# Altium integrated library ADC - Programmable.IntLib: 18 symbols
Pins are listed as number, name and electrical type; pins without a type are passive.

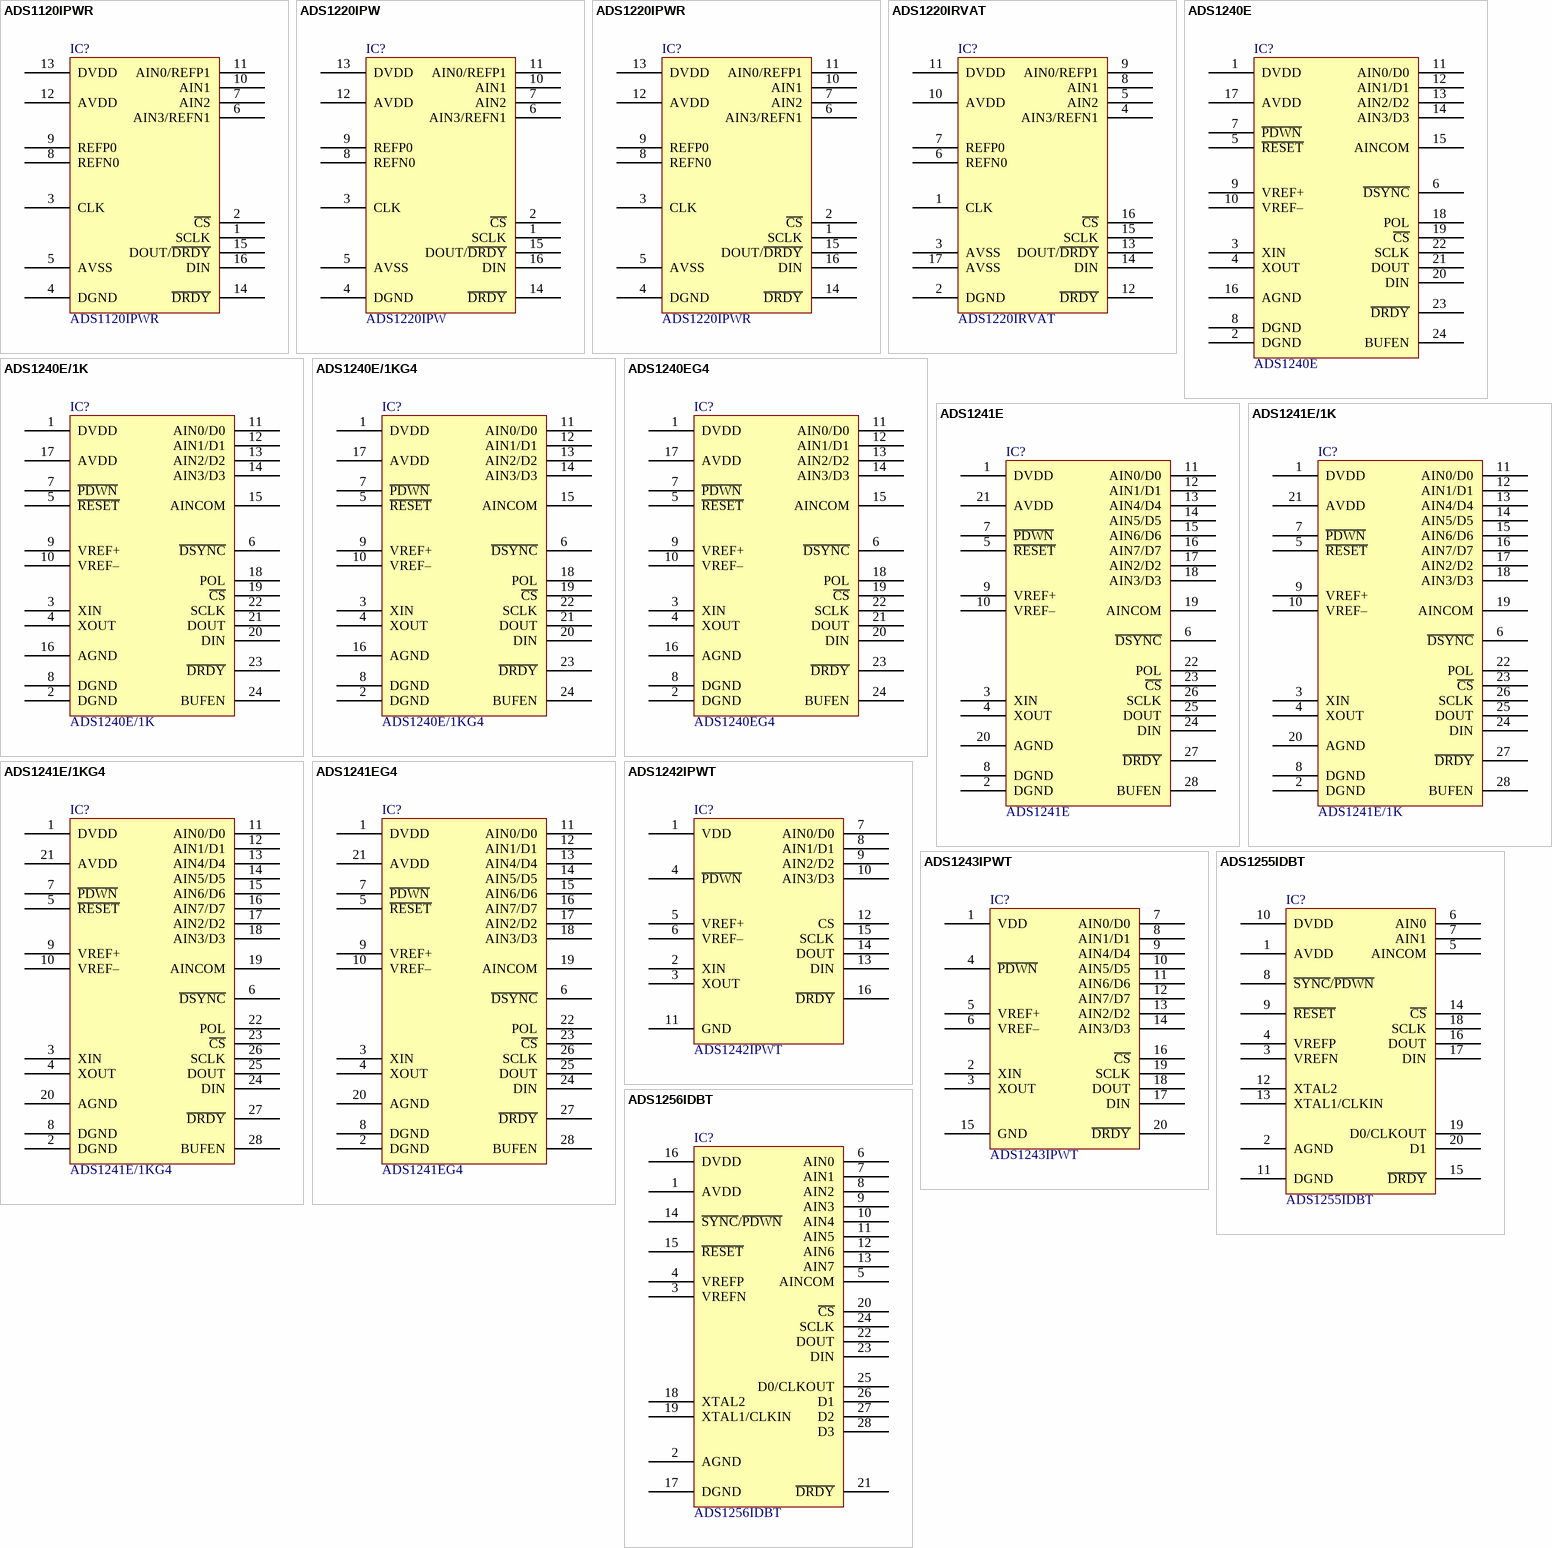
[diagram p0: symbols ADS1120IPWR to ADS1256IDBT]

## ADS1120IPWR
designator IC?
IC ADC CONV 16BIT LP LN 16TSSOP; Manufacturer: Texas Instruments; Number of Bits: 16; Samping Rate: 2k; Number of Inputs: 2, 4; Input Type: Differential, Single Ended; Data Interface: SPI; Configuration: MUX-PGA-ADC; Number of A/D Converters: 1; Architecture: Sigma-Delta; Reference Type: External, Internal, Supply; Voltage - Supply, Analog: 2.3 V ~ 5.5 V; Part Number: ADS1120IPWR; PartId: 15703; Supplier 1: Digi-Key; Supplier Part Number 1: 296-37280-1-ND; ComponentLink1Description: Datasheet; ComponentLink1URL: http://www.ti.com/lit/ds/symlink/ads1120.pdf; ComponentLink2Description: Digi-Key Listing; ComponentLink2URL: http://www.digikey.com/product-detail/en/texas-instruments/ADS1120IPWR/296-37280-1-ND/4733029; Price: 6.95; Type: ADC; Device Package: 16-TSSOP (0.173", 4.40mm Width); Series: -; Ratio - S/H:ADC: -; Voltage - Supply, Digital: 2.3 V ~ 5.5 V; Features: PGA, Temperature Sensor
footprint TI TSSOP-16 PW
pins: 1 SCLK, 2 ~{CS}, 3 CLK, 4 DGND, 5 AVSS, 6 AIN3/REFN1, 7 AIN2, 8 REFN0, 9 REFP0, 10 AIN1, 11 AIN0/REFP1, 12 AVDD, 13 DVDD, 14 ~{DRDY}, 15 DOUT/~{DRDY}, 16 DIN

## ADS1220IPW
designator IC?
IC ADC 24-BIT 2KSPS 16-TSSOP; Manufacturer: Texas Instruments; Number of Bits: 24; Samping Rate: 2k; Number of Inputs: 2, 4; Input Type: Differential, Single Ended; Data Interface: SPI; Configuration: MUX-PGA-ADC; Number of A/D Converters: 1; Architecture: Sigma-Delta; Reference Type: External, Internal, Supply; Voltage - Supply, Analog: 2.3 V ~ 5.5 V; Part Number: ADS1220IPW; PartId: 9270; Supplier 1: Digi-Key; Supplier Part Number 1: 296-36512-5-ND; ComponentLink1Description: Datasheet; ComponentLink1URL: http://www.ti.com/lit/ds/symlink/ads1220.pdf; ComponentLink2Description: Digi-Key Listing; ComponentLink2URL: http://www.digikey.com/product-detail/en/ADS1220IPW/296-36512-5-ND/4311719; Price: 10.15; Device Package: 16-TSSOP (0.173", 4.40mm Width); Series: -; Ratio - S/H:ADC: -; Voltage - Supply, Digital: 2.3 V ~ 5.5 V; Features: PGA, Temperature Sensor
footprint TI TSSOP-16 PW
pins: 1 SCLK, 2 ~{CS}, 3 CLK, 4 DGND, 5 AVSS, 6 AIN3/REFN1, 7 AIN2, 8 REFN0, 9 REFP0, 10 AIN1, 11 AIN0/REFP1, 12 AVDD, 13 DVDD, 14 ~{DRDY}, 15 DOUT/~{DRDY}, 16 DIN

## ADS1220IPWR
designator IC?
IC ADC 24-BIT 2KSPS 16-TSSOP; Manufacturer: Texas Instruments; Number of Bits: 24; Samping Rate: 2k; Number of Inputs: 2, 4; Input Type: Differential, Single Ended; Data Interface: SPI; Configuration: MUX-PGA-ADC; Number of A/D Converters: 1; Architecture: Sigma-Delta; Reference Type: External, Internal; Voltage - Supply, Analog: 2.3 V ~ 5.5 V; Part Number: ADS1220IPWR; PartId: 15702; Supplier 1: Digi-Key; Supplier Part Number 1: 296-39851-1-ND; ComponentLink1Description: Datasheet; ComponentLink1URL: http://www.ti.com/lit/ds/symlink/ads1220.pdf; ComponentLink2Description: Digi-Key Listing; ComponentLink2URL: http://www.digikey.com/product-detail/en/texas-instruments/ADS1220IPWR/296-39851-1-ND/5177728; Price: 8.71; Type: ADC; Device Package: 16-TSSOP (0.173", 4.40mm Width); Series: -; Ratio - S/H:ADC: -; Voltage - Supply, Digital: 2.3 V ~ 5.5 V; Features: PGA, Temperature Sensor
footprint TI TSSOP-16 PW
pins: 1 SCLK, 2 ~{CS}, 3 CLK, 4 DGND, 5 AVSS, 6 AIN3/REFN1, 7 AIN2, 8 REFN0, 9 REFP0, 10 AIN1, 11 AIN0/REFP1, 12 AVDD, 13 DVDD, 14 ~{DRDY}, 15 DOUT/~{DRDY}, 16 DIN

## ADS1220IRVAT
designator IC?
IC ADC 24-BIT 2KSPS 16-VQFN; Manufacturer: Texas Instruments; Number of Bits: 24; Samping Rate: 2k; Number of Inputs: 2, 4; Input Type: Differential, Single Ended; Data Interface: SPI; Configuration: MUX-PGA-ADC; Number of A/D Converters: 1; Architecture: Sigma-Delta; Reference Type: External, Internal, Supply; Voltage - Supply, Analog: 2.3 V ~ 5.5 V; Part Number: ADS1220IRVAT; PartId: 9271; Supplier 1: Digi-Key; Supplier Part Number 1: 296-37802-2-ND; ComponentLink1Description: Datasheet; ComponentLink1URL: http://www.ti.com/lit/ds/symlink/ads1220.pdf; ComponentLink2Description: Digi-Key Listing; ComponentLink2URL: http://www.digikey.com/product-detail/en/ADS1220IRVAT/296-37802-2-ND/4806293; Price: 6.9462; Device Package: 16-VFQFN Exposed Pad; Series: -; Ratio - S/H:ADC: -; Voltage - Supply, Digital: 2.3 V ~ 5.5 V; Features: PGA, Temperature Sensor
footprint TI VQFN-16 RVA
pins: 1 CLK, 2 DGND, 3 AVSS, 4 AIN3/REFN1, 5 AIN2, 6 REFN0, 7 REFP0, 8 AIN1, 9 AIN0/REFP1, 10 AVDD, 11 DVDD, 12 ~{DRDY}, 13 DOUT/~{DRDY}, 14 DIN, 15 SCLK, 16 ~{CS}, 17 AVSS

## ADS1240E
designator IC?
IC ADC 24-BIT SER PROGBL 24-SSOP; Manufacturer: Texas Instruments; Number of Bits: 24; Samping Rate: 15; Number of Inputs: 4; Input Type: Differential, Single Ended; Data Interface: SPI; Configuration: MUX-PGA-ADC; Number of A/D Converters: 1; Reference Type: External; Voltage - Supply, Analog: 2.7 V ~ 3.3 V, 5V; Voltage - Supply, Digital: 2.7 V ~ 5.25 V; Part Number: ADS1240E; PartId: 9263; Supplier 1: Digi-Key; Supplier Part Number 1: ADS1240E-ND; ComponentLink1Description: Datasheet; ComponentLink1URL: http://www.ti.com/lit/ds/symlink/ads1240.pdf; ComponentLink2Description: Digi-Key Listing; ComponentLink2URL: https://www.digikey.com/product-detail/en/ADS1240E/ADS1240E-ND/379937; Price: 15.95; Device Package: 24-SSOP (0.209", 5.30mm Width); Series: -; Features: PGA
footprint TI SSOP-24 DB
pins: 1 DVDD, 2 DGND, 3 XIN, 4 XOUT, 5 ~{RESET}, 6 ~{DSYNC}, 7 ~{PDWN}, 8 DGND, 9 VREF+, 10 VREF–, 11 AIN0/D0, 12 AIN1/D1, 13 AIN2/D2, 14 AIN3/D3, 15 AINCOM, 16 AGND, 17 AVDD, 18 POL, 19 ~{CS}, 20 DIN, 21 DOUT, 22 SCLK, 23 ~{DRDY}, 24 BUFEN

## ADS1240E/1K
designator IC?
IC ADC 24-BIT SER PROGBL 24-SSOP; Manufacturer: Texas Instruments; Number of Bits: 24; Samping Rate: 15; Number of Inputs: 4; Input Type: Differential, Single Ended; Data Interface: SPI; Configuration: MUX-PGA-ADC; Number of A/D Converters: 1; Reference Type: External; Voltage - Supply, Analog: 2.7 V ~ 3.3 V, 5V; Voltage - Supply, Digital: 2.7 V ~ 5.25 V; Part Number: ADS1240E/1K; PartId: 9258; Supplier 1: Digi-Key; Supplier Part Number 1: 296-38851-2-ND; ComponentLink1Description: Datasheet; ComponentLink1URL: http://www.ti.com/lit/ds/symlink/ads1240.pdf; ComponentLink2Description: Digi-Key Listing; ComponentLink2URL: https://www.digikey.com/product-detail/en/ADS1240E%2F1K/296-38851-2-ND/1689143; Price: 7.0387; Device Package: 24-SSOP (0.209", 5.30mm Width); Series: -; Features: PGA
footprint TI SSOP-24 DB
pins: 1 DVDD, 2 DGND, 3 XIN, 4 XOUT, 5 ~{RESET}, 6 ~{DSYNC}, 7 ~{PDWN}, 8 DGND, 9 VREF+, 10 VREF–, 11 AIN0/D0, 12 AIN1/D1, 13 AIN2/D2, 14 AIN3/D3, 15 AINCOM, 16 AGND, 17 AVDD, 18 POL, 19 ~{CS}, 20 DIN, 21 DOUT, 22 SCLK, 23 ~{DRDY}, 24 BUFEN

## ADS1240E/1KG4
designator IC?
IC ADC 24-BIT SER PROGBL 24-SSOP; Manufacturer: Texas Instruments; Number of Bits: 24; Samping Rate: 15; Number of Inputs: 4; Input Type: Differential, Single Ended; Data Interface: SPI; Configuration: MUX-PGA-ADC; Number of A/D Converters: 1; Reference Type: External; Voltage - Supply, Analog: 2.7 V ~ 3.3 V, 5V; Voltage - Supply, Digital: 2.7 V ~ 5.25 V; Part Number: ADS1240E/1KG4; PartId: 9259; Supplier 1: Digi-Key; Supplier Part Number 1: ADS1240E/1KG4-ND; ComponentLink1Description: Datasheet; ComponentLink1URL: http://www.ti.com/lit/ds/symlink/ads1240.pdf; ComponentLink2Description: Digi-Key Listing; ComponentLink2URL: https://www.digikey.com/product-detail/en/ADS1240E%2F1KG4/ADS1240E%2F1KG4-ND/1689144; Price: 7.0387; Device Package: 24-SSOP (0.209", 5.30mm Width); Series: -; Features: PGA
footprint TI SSOP-24 DB
pins: 1 DVDD, 2 DGND, 3 XIN, 4 XOUT, 5 ~{RESET}, 6 ~{DSYNC}, 7 ~{PDWN}, 8 DGND, 9 VREF+, 10 VREF–, 11 AIN0/D0, 12 AIN1/D1, 13 AIN2/D2, 14 AIN3/D3, 15 AINCOM, 16 AGND, 17 AVDD, 18 POL, 19 ~{CS}, 20 DIN, 21 DOUT, 22 SCLK, 23 ~{DRDY}, 24 BUFEN

## ADS1240EG4
designator IC?
IC ADC 24-BIT SER PROGBL 24-SSOP; Manufacturer: Texas Instruments; Number of Bits: 24; Samping Rate: 15; Number of Inputs: 4; Input Type: Differential, Single Ended; Data Interface: SPI; Configuration: MUX-PGA-ADC; Number of A/D Converters: 1; Reference Type: External; Voltage - Supply, Analog: 2.7 V ~ 3.3 V, 5V; Voltage - Supply, Digital: 2.7 V ~ 5.25 V; Part Number: ADS1240EG4; PartId: 9260; Supplier 1: Digi-Key; Supplier Part Number 1: ADS1240EG4-ND; ComponentLink1Description: Datasheet; ComponentLink1URL: http://www.ti.com/lit/ds/symlink/ads1240.pdf; ComponentLink2Description: Digi-Key Listing; ComponentLink2URL: https://www.digikey.com/product-detail/en/ADS1240EG4/ADS1240EG4-ND/1689145; Price: 13.7415; Device Package: 24-SSOP (0.209", 5.30mm Width); Series: -; Features: PGA
footprint TI SSOP-24 DB
pins: 1 DVDD, 2 DGND, 3 XIN, 4 XOUT, 5 ~{RESET}, 6 ~{DSYNC}, 7 ~{PDWN}, 8 DGND, 9 VREF+, 10 VREF–, 11 AIN0/D0, 12 AIN1/D1, 13 AIN2/D2, 14 AIN3/D3, 15 AINCOM, 16 AGND, 17 AVDD, 18 POL, 19 ~{CS}, 20 DIN, 21 DOUT, 22 SCLK, 23 ~{DRDY}, 24 BUFEN

## ADS1241E
designator IC?
IC ADC 24-BIT SER PROGBL 28-SSOP; Manufacturer: Texas Instruments; Number of Bits: 24; Samping Rate: 15; Number of Inputs: 8; Input Type: Differential, Single Ended; Data Interface: SPI; Configuration: MUX-PGA-ADC; Number of A/D Converters: 1; Reference Type: External; Voltage - Supply, Analog: 2.7 V ~ 3.3 V, 5V; Voltage - Supply, Digital: 2.7 V ~ 5.25 V; Part Number: ADS1241E; PartId: 9267; Supplier 1: Digi-Key; Supplier Part Number 1: ADS1241E-ND; ComponentLink1Description: Datasheet; ComponentLink1URL: http://www.ti.com/lit/ds/symlink/ads1240.pdf; ComponentLink2Description: Digi-Key Listing; ComponentLink2URL: https://www.digikey.com/product-detail/en/ADS1241E/ADS1241E-ND/379929; Price: 11.81; Device Package: 28-SSOP (0.209", 5.30mm Width); Series: -; Features: PGA
footprint TI SSOP-28 DB
pins: 1 DVDD, 2 DGND, 3 XIN, 4 XOUT, 5 ~{RESET}, 6 ~{DSYNC}, 7 ~{PDWN}, 8 DGND, 9 VREF+, 10 VREF–, 11 AIN0/D0, 12 AIN1/D1, 13 AIN4/D4, 14 AIN5/D5, 15 AIN6/D6, 16 AIN7/D7, 17 AIN2/D2, 18 AIN3/D3, 19 AINCOM, 20 AGND, 21 AVDD, 22 POL, 23 ~{CS}, 24 DIN, 25 DOUT, 26 SCLK, 27 ~{DRDY}, 28 BUFEN

## ADS1241E/1K
designator IC?
IC ADC 24-BIT SER PROGBL 28-SSOP; Manufacturer: Texas Instruments; Number of Bits: 24; Samping Rate: 15; Number of Inputs: 8; Input Type: Differential, Single Ended; Data Interface: SPI; Configuration: MUX-PGA-ADC; Number of A/D Converters: 1; Reference Type: External; Voltage - Supply, Analog: 2.7 V ~ 3.3 V, 5V; Voltage - Supply, Digital: 2.7 V ~ 5.25 V; Part Number: ADS1241E/1K; PartId: 9264; Supplier 1: Digi-Key; Supplier Part Number 1: 296-25895-2-ND; ComponentLink1Description: Datasheet; ComponentLink1URL: http://www.ti.com/lit/ds/symlink/ads1240.pdf; ComponentLink2Description: Digi-Key Listing; ComponentLink2URL: https://www.digikey.com/product-detail/en/ADS1241E%2F1K/296-25895-2-ND/1689146; Price: 5.21; Device Package: 28-SSOP (0.209", 5.30mm Width); Series: -; Features: PGA
footprint TI SSOP-28 DB
pins: 1 DVDD, 2 DGND, 3 XIN, 4 XOUT, 5 ~{RESET}, 6 ~{DSYNC}, 7 ~{PDWN}, 8 DGND, 9 VREF+, 10 VREF–, 11 AIN0/D0, 12 AIN1/D1, 13 AIN4/D4, 14 AIN5/D5, 15 AIN6/D6, 16 AIN7/D7, 17 AIN2/D2, 18 AIN3/D3, 19 AINCOM, 20 AGND, 21 AVDD, 22 POL, 23 ~{CS}, 24 DIN, 25 DOUT, 26 SCLK, 27 ~{DRDY}, 28 BUFEN

## ADS1241E/1KG4
designator IC?
IC ADC 24-BIT SER PROGBL 28-SSOP; Manufacturer: Texas Instruments; Number of Bits: 24; Samping Rate: 15; Number of Inputs: 8; Input Type: Differential, Single Ended; Data Interface: SPI; Configuration: MUX-PGA-ADC; Number of A/D Converters: 1; Reference Type: External; Voltage - Supply, Analog: 2.7 V ~ 3.3 V, 5V; Voltage - Supply, Digital: 2.7 V ~ 5.25 V; Part Number: ADS1241E/1KG4; PartId: 9265; Supplier 1: Digi-Key; Supplier Part Number 1: ADS1241E/1KG4-ND; ComponentLink1Description: Datasheet; ComponentLink1URL: http://www.ti.com/lit/ds/symlink/ads1240.pdf; ComponentLink2Description: Digi-Key Listing; ComponentLink2URL: https://www.digikey.com/product-detail/en/ADS1241E%2F1KG4/ADS1241E%2F1KG4-ND/1689147; Price: 5.21; Device Package: 28-SSOP (0.209", 5.30mm Width); Series: -; Features: PGA
footprint TI SSOP-28 DB
pins: 1 DVDD, 2 DGND, 3 XIN, 4 XOUT, 5 ~{RESET}, 6 ~{DSYNC}, 7 ~{PDWN}, 8 DGND, 9 VREF+, 10 VREF–, 11 AIN0/D0, 12 AIN1/D1, 13 AIN4/D4, 14 AIN5/D5, 15 AIN6/D6, 16 AIN7/D7, 17 AIN2/D2, 18 AIN3/D3, 19 AINCOM, 20 AGND, 21 AVDD, 22 POL, 23 ~{CS}, 24 DIN, 25 DOUT, 26 SCLK, 27 ~{DRDY}, 28 BUFEN

## ADS1241EG4
designator IC?
IC ADC 24-BIT SER PROGBL 28-SSOP; Manufacturer: Texas Instruments; Number of Bits: 24; Samping Rate: 15; Number of Inputs: 8; Input Type: Differential, Single Ended; Data Interface: SPI; Configuration: MUX-PGA-ADC; Number of A/D Converters: 1; Reference Type: External; Voltage - Supply, Analog: 2.7 V ~ 3.3 V, 5V; Voltage - Supply, Digital: 2.7 V ~ 5.25 V; Part Number: ADS1241EG4; PartId: 9266; Supplier 1: Digi-Key; Supplier Part Number 1: ADS1241EG4-ND; ComponentLink1Description: Datasheet; ComponentLink1URL: http://www.ti.com/lit/ds/symlink/ads1240.pdf; ComponentLink2Description: Digi-Key Listing; ComponentLink2URL: https://www.digikey.com/product-detail/en/ADS1241EG4/ADS1241EG4-ND/1689148; Price: 8.8324; Device Package: 28-SSOP (0.209", 5.30mm Width); Series: -; Features: PGA
footprint TI SSOP-28 DB
pins: 1 DVDD, 2 DGND, 3 XIN, 4 XOUT, 5 ~{RESET}, 6 ~{DSYNC}, 7 ~{PDWN}, 8 DGND, 9 VREF+, 10 VREF–, 11 AIN0/D0, 12 AIN1/D1, 13 AIN4/D4, 14 AIN5/D5, 15 AIN6/D6, 16 AIN7/D7, 17 AIN2/D2, 18 AIN3/D3, 19 AINCOM, 20 AGND, 21 AVDD, 22 POL, 23 ~{CS}, 24 DIN, 25 DOUT, 26 SCLK, 27 ~{DRDY}, 28 BUFEN

## ADS1242IPWT
designator IC?
IC ADC 24-BIT SER PROGBL 16TSSOP; Manufacturer: Texas Instruments; Number of Bits: 24; Samping Rate: 15; Number of Inputs: 4; Input Type: Differential, Single Ended; Data Interface: SPI; Configuration: MUX-PGA-ADC; Number of A/D Converters: 1; Architecture: Sigma-Delta; Reference Type: External; Voltage - Supply, Analog: 2.7 V ~ 3.3 V, 5V; Voltage - Supply, Digital: 2.7 V ~ 5.25 V; Part Number: ADS1242IPWT; PartId: 9268; Supplier 1: Digi-Key; Supplier Part Number 1: ADS1242IPWTTR-ND; ComponentLink1Description: Datasheet; ComponentLink1URL: http://www.ti.com/lit/ds/symlink/ads1242.pdf; ComponentLink2Description: Digi-Key Listing; ComponentLink2URL: http://www.digikey.com/product-detail/en/ADS1242IPWT/ADS1242IPWTTR-ND/459348; Price: 6.9394; Device Package: 16-TSSOP (0.173", 4.40mm Width); Series: -; Ratio - S/H:ADC: -; Features: PGA
footprint TI TSSOP-16 PW
pins: 1 VDD, 2 XIN, 3 XOUT, 4 ~{PDWN}, 5 VREF+, 6 VREF–, 7 AIN0/D0, 8 AIN1/D1, 9 AIN2/D2, 10 AIN3/D3, 11 GND, 12 CS, 13 DIN, 14 DOUT, 15 SCLK, 16 ~{DRDY}

## ADS1243IPWT
designator IC?
IC ADC 24-BIT SER PROGBL 20TSSOP; Manufacturer: Texas Instruments; Number of Bits: 24; Samping Rate: 15; Number of Inputs: 8; Input Type: Differential, Single Ended; Data Interface: SPI; Configuration: MUX-PGA-ADC; Number of A/D Converters: 1; Architecture: Sigma-Delta; Reference Type: External; Voltage - Supply, Analog: 2.7 V ~ 3.3 V, 5V; Voltage - Supply, Digital: 2.7 V ~ 5.25 V; Part Number: ADS1243IPWT; PartId: 9269; Supplier 1: Digi-Key; Supplier Part Number 1: ADS1243IPWTTR-ND; ComponentLink1Description: Datasheet; ComponentLink1URL: http://www.ti.com/lit/ds/symlink/ads1242.pdf; ComponentLink2Description: Digi-Key Listing; ComponentLink2URL: http://www.digikey.com/product-detail/en/ADS1243IPWT/ADS1243IPWTTR-ND/459360; Price: 7.616; Device Package: 20-TSSOP (0.173", 4.40mm Width); Series: -; Ratio - S/H:ADC: -; Features: PGA
footprint TI TSSOP-20 PW
pins: 1 VDD, 2 XIN, 3 XOUT, 4 ~{PDWN}, 5 VREF+, 6 VREF–, 7 AIN0/D0, 8 AIN1/D1, 9 AIN4/D4, 10 AIN5/D5, 11 AIN6/D6, 12 AIN7/D7, 13 AIN2/D2, 14 AIN3/D3, 15 GND, 16 ~{CS}, 17 DIN, 18 DOUT, 19 SCLK, 20 ~{DRDY}

## ADS1255IDBT
designator IC?
IC ADC 24-BIT SPI PROGBL 20-SSOP; Manufacturer: Texas Instruments; Number of Bits: 24; Samping Rate: 30k; Number of Inputs: 1, 2; Input Type: Differential, Single Ended; Configuration: MUX-PGA-ADC; Number of A/D Converters: 1; Architecture: Sigma-Delta; Reference Type: External; Voltage - Supply, Analog: 5V; Voltage - Supply, Digital: 1.8 V ~ 3.6 V; Part Number: ADS1255IDBT; PartId: 9274; Supplier 1: Digi-Key; Supplier Part Number 1: 296-15743-2-ND; ComponentLink1Description: Datasheet; ComponentLink1URL: http://www.ti.com/lit/ds/symlink/ads1255.pdf; ComponentLink2Description: Digi-Key Listing; ComponentLink2URL: http://www.digikey.com/product-detail/en/ADS1255IDBT/296-15743-2-ND/593899; Price: 10.4625; Device Package: 20-SSOP (0.209", 5.30mm Width); Series: -; Data Interface: SPI; Ratio - S/H:ADC: -; Features: PGA
footprint TI SSOP-20 DB
pins: 1 AVDD, 2 AGND, 3 VREFN, 4 VREFP, 5 AINCOM, 6 AIN0, 7 AIN1, 8 ~{SYNC}/~{PDWN}, 9 ~{RESET}, 10 DVDD, 11 DGND, 12 XTAL2, 13 XTAL1/CLKIN, 14 ~{CS}, 15 ~{DRDY}, 16 DOUT, 17 DIN, 18 SCLK, 19 D0/CLKOUT, 20 D1

## ADS1256IDBT
designator IC?
IC ADC 24-BIT SPI PROGBL 28-SSOP; Manufacturer: Texas Instruments; Number of Bits: 24; Samping Rate: 30k; Number of Inputs: 4, 8; Input Type: Differential, Single Ended; Configuration: MUX-PGA-ADC; Number of A/D Converters: 1; Architecture: Sigma-Delta; Reference Type: External; Voltage - Supply, Analog: 5V; Voltage - Supply, Digital: 1.8 V ~ 3.6 V; Part Number: ADS1256IDBT; PartId: 9275; Supplier 1: Digi-Key; Supplier Part Number 1: 296-15208-2-ND; ComponentLink1Description: Datasheet; ComponentLink1URL: http://www.ti.com/lit/ds/symlink/ads1255.pdf; ComponentLink2Description: Digi-Key Listing; ComponentLink2URL: http://www.digikey.com/product-detail/en/ADS1256IDBT/296-15208-2-ND/566351; Price: 11.718; Device Package: 28-SSOP (0.209", 5.30mm Width); Series: -; Data Interface: SPI; Ratio - S/H:ADC: -; Features: PGA
footprint TI SSOP-28 DB
pins: 1 AVDD, 2 AGND, 3 VREFN, 4 VREFP, 5 AINCOM, 6 AIN0, 7 AIN1, 8 AIN2, 9 AIN3, 10 AIN4, 11 AIN5, 12 AIN6, 13 AIN7, 14 ~{SYNC}/~{PDWN}, 15 ~{RESET}, 16 DVDD, 17 DGND, 18 XTAL2, 19 XTAL1/CLKIN, 20 ~{CS}, 21 ~{DRDY}, 22 DOUT, 23 DIN, 24 SCLK, 25 D0/CLKOUT, 26 D1, 27 D2, 28 D3

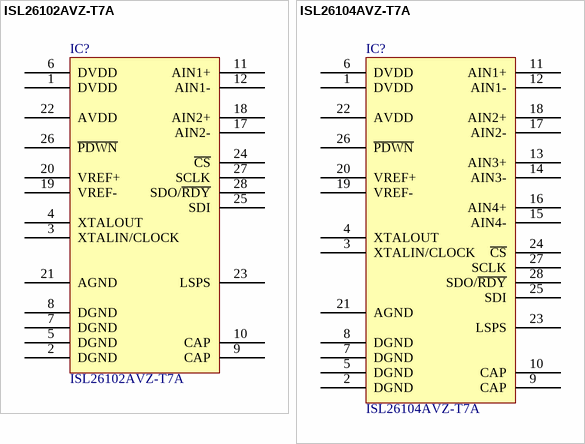
[diagram p1: symbols ISL26102AVZ-T7A to ISL26104AVZ-T7A]

## ISL26102AVZ-T7A
designator IC?
IC ADC 24BIT SRL 2CH 24-TSSOP; Manufacturer: Intersil; Number of Bits: 24; Samping Rate: 4k; Number of Inputs: 2; Input Type: Differential; Data Interface: SPI; Configuration: MUX-PGA-ADC; Number of A/D Converters: 1; Architecture: Sigma-Delta; Reference Type: External; Voltage - Supply, Analog: 5V; Voltage - Supply, Digital: 2.7 V ~ 5.25 V; Part Number: ISL26102AVZ-T7A; PartId: 9272; Supplier 1: Digi-Key; Supplier Part Number 1: ISL26102AVZ-T7ATR-ND; ComponentLink1Description: Datasheet; ComponentLink1URL: http://www.intersil.com/content/dam/Intersil/documents/fn76/fn7608.pdf; ComponentLink2Description: Digi-Key Listing; ComponentLink2URL: http://www.digikey.com/product-detail/en/ISL26102AVZ-T7A/ISL26102AVZ-T7ATR-ND/3726277; Price: 7.616; Device Package: 24-TSSOP (0.173", 4.40mm Width); Series: -; Ratio - S/H:ADC: -; Features: PGA, Temperature Sensor
footprint INTERSIL TSSOP-24 M24.173
pins: 1 DVDD, 2 DGND, 3 XTALIN/CLOCK, 4 XTALOUT, 5 DGND, 6 DVDD, 7 DGND, 8 DGND, 9 CAP, 10 CAP, 11 AIN1+, 12 AIN1-, 17 AIN2-, 18 AIN2+, 19 VREF-, 20 VREF+, 21 AGND, 22 AVDD, 23 LSPS, 24 ~{CS}, 25 SDI, 26 ~{PDWN}, 27 SCLK, 28 SDO/~{RDY}

## ISL26104AVZ-T7A
designator IC?
IC ADC 24BIT SRL 4CH 28-TSSOP; Manufacturer: Intersil; Number of Bits: 24; Samping Rate: 4k; Number of Inputs: 4; Input Type: Differential; Data Interface: SPI; Configuration: MUX-PGA-ADC; Number of A/D Converters: 1; Architecture: Sigma-Delta; Reference Type: External; Voltage - Supply, Analog: 5V; Voltage - Supply, Digital: 2.7 V ~ 5.25 V; Part Number: ISL26104AVZ-T7A; PartId: 9273; Supplier 1: Digi-Key; Supplier Part Number 1: ISL26104AVZ-T7ATR-ND; ComponentLink1Description: Datasheet; ComponentLink1URL: http://www.intersil.com/content/dam/Intersil/documents/fn76/fn7608.pdf; ComponentLink2Description: Digi-Key Listing; ComponentLink2URL: http://www.digikey.com/product-detail/en/ISL26104AVZ-T7A/ISL26104AVZ-T7ATR-ND/3726278; Price: 7.616; Device Package: 28-TSSOP (0.173", 4.40mm Width); Series: -; Ratio - S/H:ADC: -; Features: PGA, Temperature Sensor
footprint INTERSIL TSSOP-28 M28.173
pins: 1 DVDD, 2 DGND, 3 XTALIN/CLOCK, 4 XTALOUT, 5 DGND, 6 DVDD, 7 DGND, 8 DGND, 9 CAP, 10 CAP, 11 AIN1+, 12 AIN1-, 13 AIN3+, 14 AIN3-, 15 AIN4-, 16 AIN4+, 17 AIN2-, 18 AIN2+, 19 VREF-, 20 VREF+, 21 AGND, 22 AVDD, 23 LSPS, 24 ~{CS}, 25 SDI, 26 ~{PDWN}, 27 SCLK, 28 SDO/~{RDY}